# EAGLE library part RA8875 (library gael)
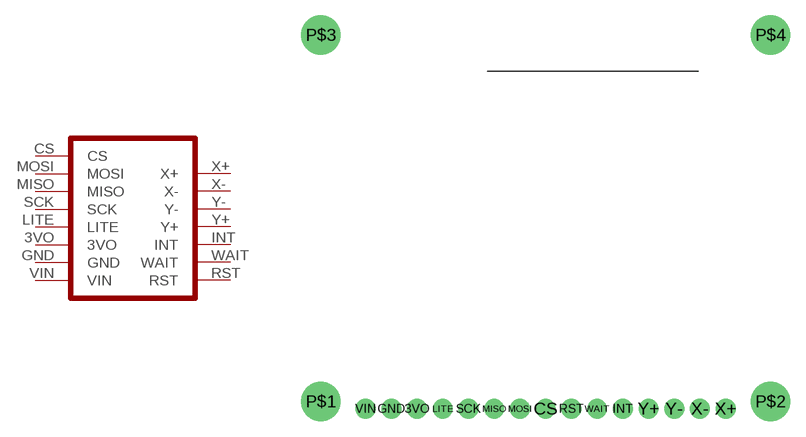
[diagram p6: symbol with the pads of RA8875; footprint RA8875]

Designator prefix -

## RA8875  [RA8875]
3VO  3VO
CS  CS
GND  GND
INT  INT
LITE  LITE
MISO  MISO
MOSI  MOSI
RST  RST
SCK  SCK
VIN  VIN
WAIT  WAIT
X+  X+
X-  X-
Y+  Y+
Y-  Y-

## Footprint RA8875 (pad centres in mm)
drill 1 pad 1.93: 3VO 11.85,1.8; CS 24.35,1.8; GND 9.35,1.8; INT 31.85,1.8; LITE 14.35,1.8; MISO 19.35,1.8; MOSI 21.85,1.8; RST 26.85,1.8; SCK 16.85,1.8; VIN 6.85,1.8; WAIT 29.35,1.8; X+ 41.85,1.8; X- 39.35,1.8; Y+ 34.35,1.8; Y- 36.85,1.8
drill 2 pad 3.81: P$1 2.5,2.5; P$2 46.2,2.5; P$3 2.5,38.1; P$4 46.2,38.1